# Altium footprint library ICS.PcbLib: 18 footprints (part 2 of 2)
Each footprint in its own frame and in the unit in brackets; x right, y up, seen from the top. Pads: shape width x height; smd on the part's side, far side on the other; paste and mask are expansions set on the pad; w line width, h text height; cw(c..) or ccw(c..) is an arc to the next point about the centre after c.
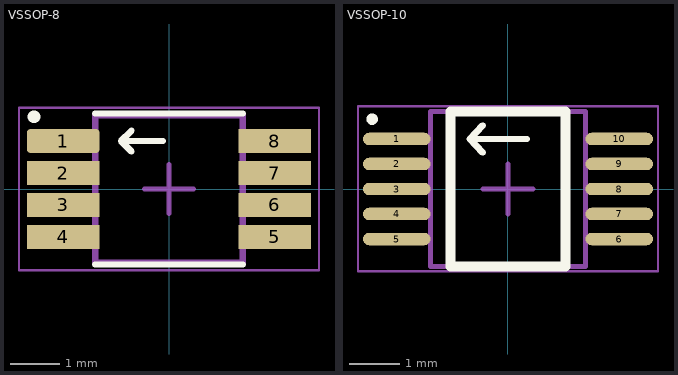
[diagram p1: the footprints below, top view; thin cyan lines are the x and y axes]

## VSSOP-8 [mm]
pads (8):
  rrect25% 1.47x0.48 smd mask+0.05: 1(-2.15,0.975)
  rect 1.47x0.48 smd mask+0.05: 2(-2.15,0.325) 3(-2.15,-0.325) 4(-2.15,-0.975) 5(2.15,-0.975) 6(2.15,-0.325) 7(2.15,0.325) 8(2.15,0.975)
Top Overlay:
  lines w0.127: -1.5,-1.535 1.5,-1.535 ; -1.5,1.535 1.5,1.535 ; -0.762,0.762 -0.975,0.975 ; -0.762,1.188 -0.975,0.975 ; -0.127,0.975 -0.975,0.975
  lines w0.254: -2.744,1.466 ccw(c-2.769,1.473) -2.743,1.473
Top Courtyard:
  lines w0.1: -0.5,0 0.5,0 ; 0,-0.5 0,0.5
Mechanical 13:
  lines w0.127: -1.5,-1.5 -1.5,1.5 1.5,1.5 1.5,-1.5 -1.5,-1.5
Mechanical 15:
  lines w0.05: -3.048,-1.651 -3.048,1.651 3.048,1.651 3.048,-1.651 -3.048,-1.651
3D body "INA333AIDGKR (1).STEP": height 1.1, standoff 0, extent -2.45,-1.5 2.45,1.5

## VSSOP-10 [mm] "TSSOP, 10-Leads, Body 3.00x3.00mm, Pitch 0.50mm, IPC High Density"
height 1.1
pads (10):
  oval 1.35x0.25 smd: 1(-2.225,1) 2(-2.225,0.5) 3(-2.225,0) 4(-2.225,-0.5) 5(-2.225,-1) 6(2.225,-1) 7(2.225,-0.5) 8(2.225,0) 9(2.225,0.5) 10(2.225,1)
Top Overlay:
  circle w0.127: c-2.718,1.397 r0.051
  lines w0.127: -0.508,0.73 -0.762,1 ; -0.508,1.27 -0.762,1 ; 0.381,1 -0.762,1
  lines w0.2: -1.15,-1.55 -1.15,1.55 1.15,1.55 1.15,-1.55 -1.15,-1.55
Top Courtyard:
  lines w0.05: -3,-1.65 -3,1.65 3,1.65 3,-1.65 -3,-1.65
  lines w0.1: -0.5,0 0.5,0 ; 0,-0.5 0,0.5
Top Assembly:
  lines w0.1: -1.55,-1.55 -1.55,1.55 1.55,1.55 1.55,-1.55 -1.55,-1.55
3D body "TSSOP50P510X110-10L.step": height 1.1, standoff 0, extent -2.562,-1.55 2.562,1.55